# EAGLE library part ADS8668 (library isystems)
TI ADS8668 12-Bit, 500-kSPS, 8-Channel, Single-Supply, SAR ADCs with Bipolar Input Ranges 12-Bit ADCs with Integrated Analog Front-End 8-Channel MUX with Auto and Manual Scan Channel-Independent Programmable Inputs: ±10.24 V, ±5.12 V, ±2.56 V, ±1.28 V, ±0.64 V 10.24 V, 5.12 V, 2.56 V, 1.28 V 5-V Analog Supply: 1.65-V to 5-V I/O Supply Constant Resistive Input Impedance: 1 MΩ Input Overvoltage Protection: Up to ±20 V On-Chip, 4.096-V Reference with Low Drift Excellent Performance: 500-kSPS Aggregate Throughput DNL: ±0.2 LSB; INL: ±0.2 LSB Low Drift for Gain Error and Offset SNR: 73.8 dB; THD: –95 dB Low Power: 65 mW AUX Input → Direct Connection to ADC Inputs ALARM → High and Low Thresholds per Channel SPI™-Compatible Interface with Daisy-Chain Industrial Temperature Range: –40°C to 125°C TSSOP-38 Package (9.7 mm × 4.4 mm)
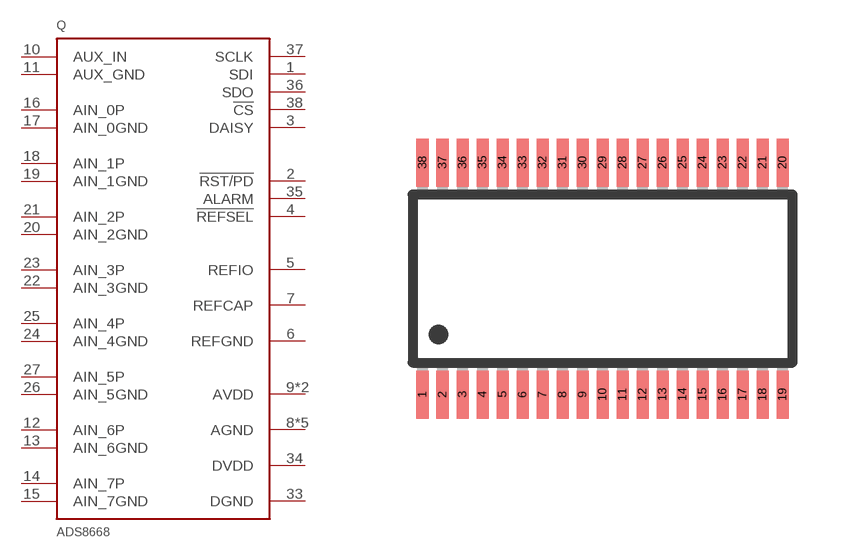
[diagram p56: symbol with the pads of TSSOP38; footprint TSSOP38]

Designator prefix Q

## ADS8668  [TSSOP38]
1  SDI  in
2  !RST/PD  in
3  DAISY  in
4  !REFSEL  in
5  REFIO
6  REFGND
7  REFCAP
8  AGND  pwr
9  AVDD  pwr
10  AUX_IN  in
11  AUX_GND  in
12  AIN_6P  in
13  AIN_6GND  in
14  AIN_7P  in
15  AIN_7GND  in
16  AIN_0P  in
17  AIN_0GND  in
18  AIN_1P  in
19  AIN_1GND  in
20  AIN_2GND  in
21  AIN_2P  in
22  AIN_3GND  in
23  AIN_3P  in
24  AIN_4GND  in
25  AIN_4P  in
26  AIN_5GND  in
27  AIN_5P  in
28  AGND  pwr
29  AGND  pwr
30  AVDD  pwr
31  AGND  pwr
32  AGND  pwr
33  DGND  pwr
34  DVDD  pwr
35  ALARM  out
36  SDO  out
37  SCLK  in
38  !CS  in

## Footprint TSSOP38 (pad centres in mm)
38-Lead Thin Shrink Small Outline Package [TSSOP] RU-38 Source: http://www.analog.com/UploadedFiles/Packages/415413609854197792024125RU38.pdf COMPLIANT TO JEDEC STANDARDS MS-153BD-1
smd 0.3 x 1.2: 1 -4.5,-2.9; 2 -4,-2.9; 3 -3.5,-2.9; 4 -3,-2.9; 5 -2.5,-2.9; 6 -2,-2.9; 7 -1.5,-2.9; 8 -1,-2.9; 9 -0.5,-2.9; 10 0,-2.9; 11 0.5,-2.9; 12 1,-2.9; 13 1.5,-2.9; 14 2,-2.9; 15 2.5,-2.9; 16 3,-2.9; 17 3.5,-2.9; 18 4,-2.9; 19 4.5,-2.9; 20 4.5,2.9; 21 4,2.9; 22 3.5,2.9; 23 3,2.9; 24 2.5,2.9; 25 2,2.9; 26 1.5,2.9; 27 1,2.9; 28 0.5,2.9; 29 0,2.9; 30 -0.5,2.9; 31 -1,2.9; 32 -1.5,2.9; 33 -2,2.9; 34 -2.5,2.9; 35 -3,2.9; 36 -3.5,2.9; 37 -4,2.9; 38 -4.5,2.9